# Altium integrated library Analog Devices Data Converters Digital-to-Analog Converters.IntLib: 2231 symbols (part 111 of 181)
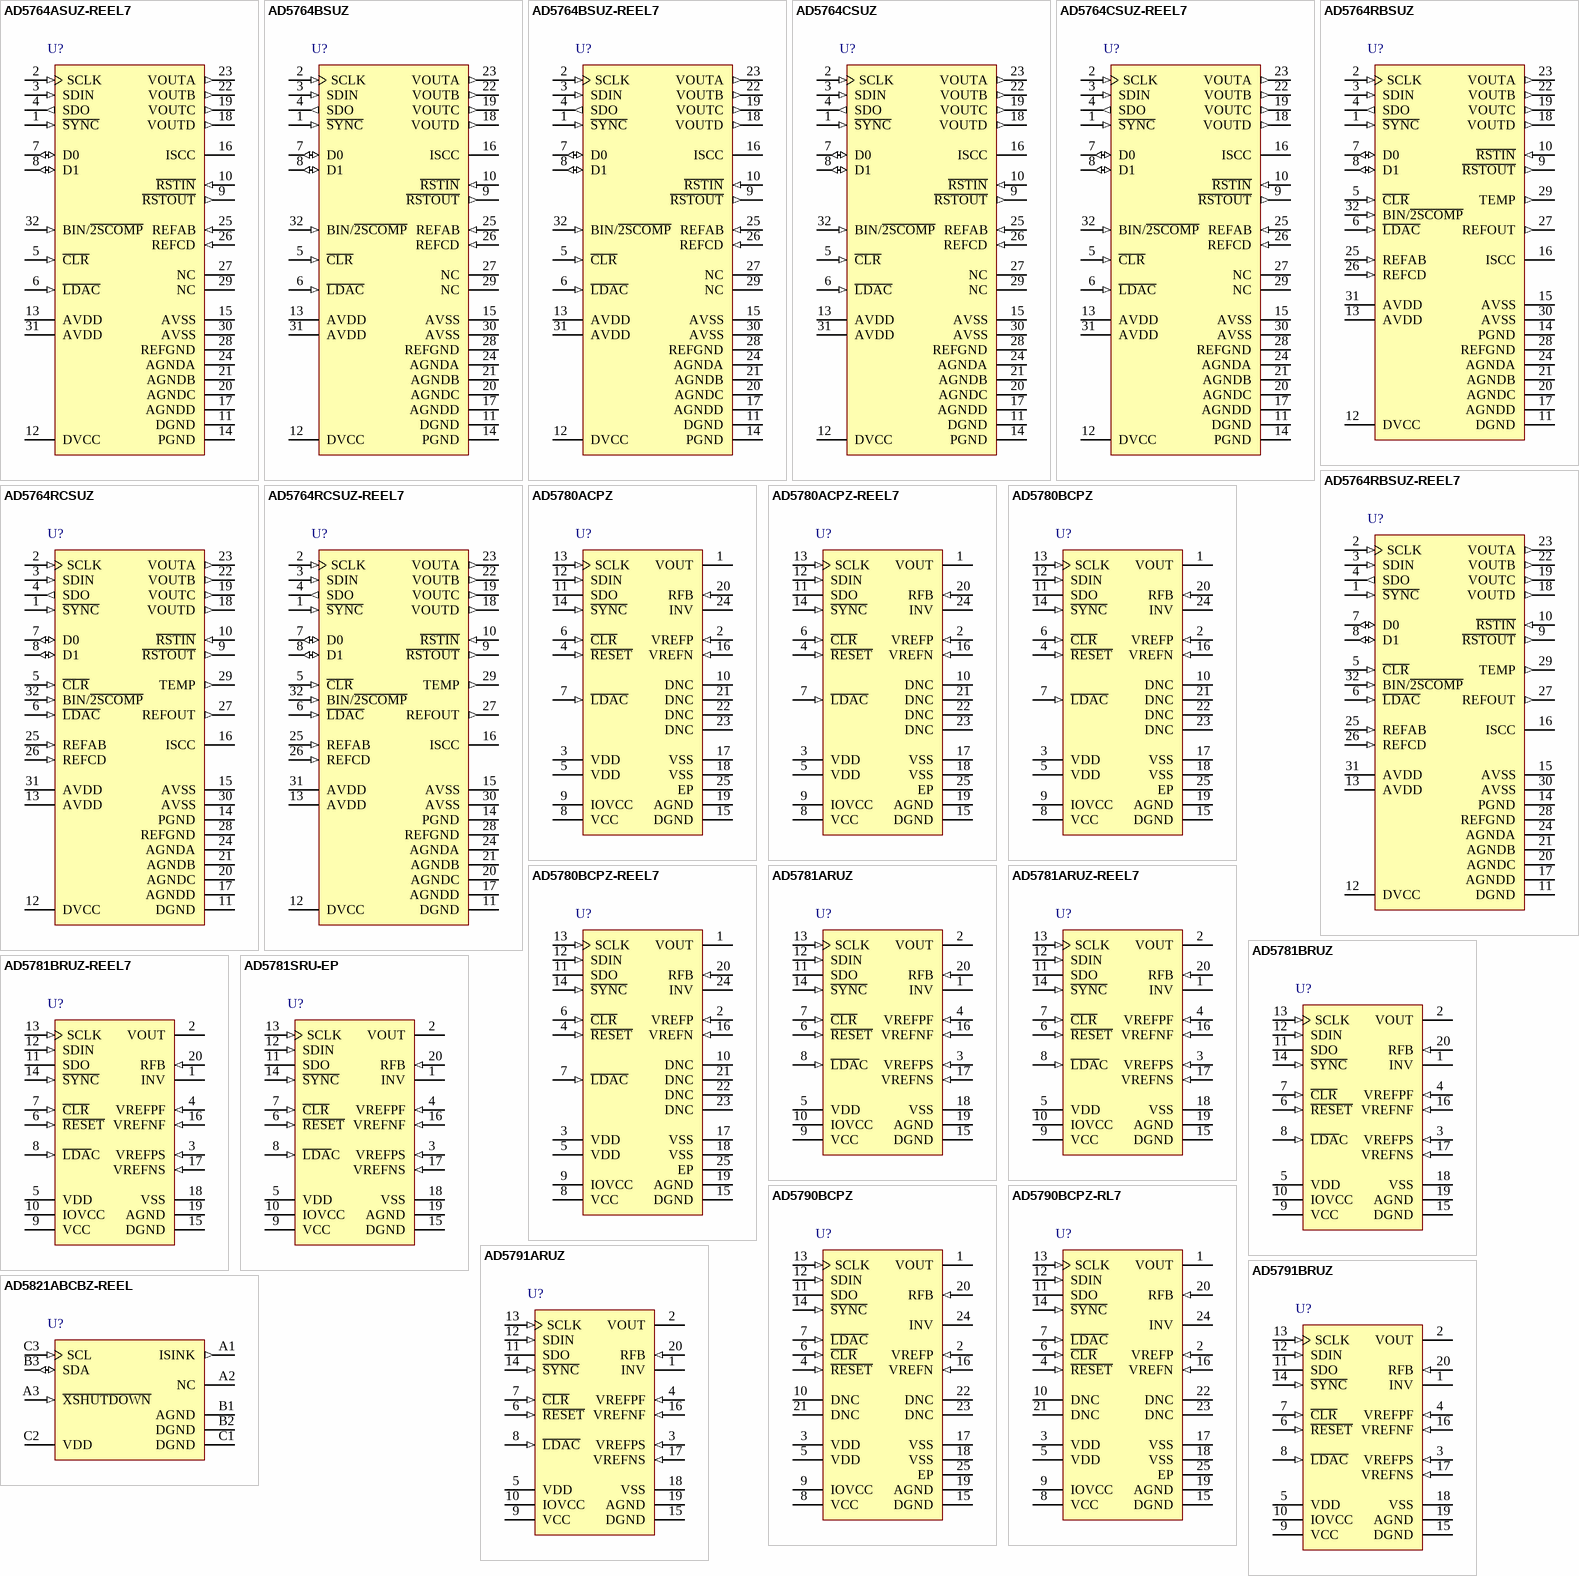
[diagram p224: symbols AD5764ASUZ-REEL7 to AD5821ABCBZ-REEL]

## AD5781BRUZ-REEL7
designator U?
Single 18-Bit Voltage Output Digital-to-Analog Converter, + / -0.5 LSB INL DNL, -40 to +125 degC, RU-20, Pb-Free, Tube; Generic Part Number: AD5781; Manufacturer: Analog Devices; PartNumber: AD5781BRUZ-REEL7; # DAC Outputs: 1; Max V+: 33V; Op Pwr Diss: 120mW; Packing: Reel; Resolution (Bits): 18; Settling Time: 1µs; Single Supply: No; DatasheetVersion: Rev.C; PackageVersion: 2000; PackageReference: RU-20; PackageDescription: 20-Lead Thin Shrink Small Outline Package [TSSOP]; Supplier 1: Digi-Key; Supplier Part Number 1: AD5781BRUZ-REEL7-ND; Supplier 2: Mouser; Supplier Part Number 2: 584-AD5781BRUZ-R7; RoHS: Y; Mounting Technology: Surface Mount; Code_JEDEC: MO-153AC; ComponentLink1Description: Manufacturer URL; ComponentLink1URL: http://www.analog.com/en/index.html; ComponentLink2Description: Datasheet; ComponentLink2URL: http://www.analog.com/static/imported-files/data_sheets/AD5781.pdf; ComponentLink3Description: Package Specification; ComponentLink3URL: http://www.analog.com/static/imported-files/packages/364515793657813558433715854054607941441RU20.pdf; ComponentLink4Description: Product URL; ComponentLink4URL: http://www.analog.com/en/digital-to-analog-converters/da-converters/ad5781/products/product.html
footprint RU-20_N (TSOP, 20-Leads, Body 6.5x4.4mm, Pitch 0.65mm, IPC Medium Density)
footprint RU-20_L (TSOP, 20-Leads, Body 6.5x4.4mm, Pitch 0.65mm, IPC High Density)
footprint RU-20_M (TSOP, 20-Leads, Body 6.5x4.4mm, Pitch 0.65mm, IPC Low Density)
pins: 1 INV "Connection to Inverting Input of External Amplifier. See the AD5781 Features section for further details.", 2 VOUT (hiz) "Analog Output Voltage.", 3 VREFPS (in) "Positive Reference Sense Voltage Input. A voltage range of 5 V to VDD - 2.5 V can be connected. A unity gain amplifier must be connected at this pin, in conjunction with the VREFPF pin. See the AD5781 Features section for (See Datasheet)", 4 VREFPF (in) "Positive Reference Force Voltage Input. A voltage range of 5 V to VDD - 2.5 V can be connected. A unity gain amplifier must be connected at these pin, in conjunction with the VREFPS pin. See AD5781 Features section for (See Datasheet)", 5 VDD (power) "Positive Analog Supply Connection. A voltage range of 7.5 V to 16.5 V can be connected. VDD should be decoupled to AGND.", 6 ~{RESET} (in) "Active Low Reset Logic Input Pin. Asserting this pin returns the AD5781 to its power-on status.", 7 ~{CLR} (in) "Active Low Clear Logic Input Pin. Asserting this pin sets the DAC register to a user defined value (see Table 13) and updates the DAC output. The output value depends on the DAC register coding that is being used, either (See Datasheet)", 8 ~{LDA}C (in) "Active Low Load DAC Logic Input Pin. This is used to update the DAC register and, consequently, the analog output. When tied permanently low, the output is updated on the rising edge of S\Y\N\C\. If L\D\A\C\ is held high (See Datasheet)", 9 VCC (power) "Digital Supply Connection. A voltage in the range of 2.7 V to 5.5 V can be connected. VCC should be decoupled to DGND.", 10 IOVCC (power) "Digital Interface Supply Pin. Digital threshold levels are referenced to the voltage applied to this pin. A voltage range of 1.71 V to 5.5 V can be connected. IOVCC should not be allowed to exceed VCC.", 11 SDO (hiz) "Serial Data Output Pin. Data is clocked out on the rising edge of the serial clock input.", 12 SDIN (in) "Serial Data Input Pin. This device has a 24-bit shift register. Data is clocked into the register on the falling edge of the serial clock input.", 13 SCLK (in) "Serial Clock Input. Data is clocked into the input shift register on the falling edge of the serial clock input. Data can be transferred at clock rates of up to 35 MHz.", 14 ~{SYNC} (in) "Active Low Digital Interface Synchronization Input Pin. This is the frame synchronization signal for the input data. When S\Y\N\C\ is low, it enables the input shift register, and data is then transferred in on the falling (See Datasheet)", 15 DGND (power) "Ground Reference Pin for Digital Circuitry.", 16 VREFNF (in) "Negative Reference Force Voltage Input. A voltage range of VSS + 2.5 V to 0 V can be connected. A unity gain amplifier must be connected at this pin, in conjunction with the VREFNS pin. See the AD5781 Features section for (See Datasheet)", 17 VREFNS (in) "Negative Reference Sense Voltage Input. A voltage range of VSS + 2.5 V to 0 V can be connected. A unity gain amplifier must be connected at these pin, in conjunction with the VREFNF pin. See the AD5781 Features section for (See Datasheet)", 18 VSS (power) "Negative Analog Supply Connection. A voltage range of -16.5 V to -2.5 V can be connected. VSS should be decoupled to AGND.", 19 AGND (power) "Ground Reference Pin for Analog Circuitry.", 20 RFB (in) "Feedback Connection for External Amplifier. See the AD5781 Features section for further details."

## AD5781SRU-EP
designator U?
Single 18-Bit Voltage Output Digital-to-Analog Converter, + / -0.5 LSB INL DNL, -40 to +125 degC, RU-20, Tube; Generic Part Number: AD5781; Manufacturer: Analog Devices; PartNumber: AD5781SRU-EP; # DAC Outputs: 1; Max V+: 33V; Op Pwr Diss: 120mW; Resolution (Bits): 18; Settling Time: 1µs; Single Supply: No; DatasheetVersion: Rev.C; PackageVersion: 2000; PackageReference: RU-20; PackageDescription: 20-Lead Thin Shrink Small Outline Package [TSSOP]; Supplier 1: Digi-Key; Supplier Part Number 1: AD5781SRU-EP-ND; Supplier 2: Mouser; Supplier Part Number 2: 584-AD5781SRU-EP; Packing: Tube; RoHS: N; Mounting Technology: Surface Mount; Code_JEDEC: MO-153AC; ComponentLink1Description: Manufacturer URL; ComponentLink1URL: http://www.analog.com/en/index.html; ComponentLink2Description: Datasheet; ComponentLink2URL: http://www.analog.com/static/imported-files/data_sheets/AD5781.pdf; ComponentLink3Description: Package Specification; ComponentLink3URL: http://www.analog.com/static/imported-files/packages/364515793657813558433715854054607941441RU20.pdf; ComponentLink4Description: Product URL; ComponentLink4URL: http://www.analog.com/en/digital-to-analog-converters/da-converters/ad5781/products/product.html
footprint RU-20_N (TSOP, 20-Leads, Body 6.5x4.4mm, Pitch 0.65mm, IPC Medium Density)
footprint RU-20_L (TSOP, 20-Leads, Body 6.5x4.4mm, Pitch 0.65mm, IPC High Density)
footprint RU-20_M (TSOP, 20-Leads, Body 6.5x4.4mm, Pitch 0.65mm, IPC Low Density)
pins: 1 INV "Connection to Inverting Input of External Amplifier. See the AD5781 Features section for further details.", 2 VOUT (hiz) "Analog Output Voltage.", 3 VREFPS (in) "Positive Reference Sense Voltage Input. A voltage range of 5 V to VDD - 2.5 V can be connected. A unity gain amplifier must be connected at this pin, in conjunction with the VREFPF pin. See the AD5781 Features section for (See Datasheet)", 4 VREFPF (in) "Positive Reference Force Voltage Input. A voltage range of 5 V to VDD - 2.5 V can be connected. A unity gain amplifier must be connected at these pin, in conjunction with the VREFPS pin. See AD5781 Features section for (See Datasheet)", 5 VDD (power) "Positive Analog Supply Connection. A voltage range of 7.5 V to 16.5 V can be connected. VDD should be decoupled to AGND.", 6 ~{RESET} (in) "Active Low Reset Logic Input Pin. Asserting this pin returns the AD5781 to its power-on status.", 7 ~{CLR} (in) "Active Low Clear Logic Input Pin. Asserting this pin sets the DAC register to a user defined value (see Table 13) and updates the DAC output. The output value depends on the DAC register coding that is being used, either (See Datasheet)", 8 ~{LDA}C (in) "Active Low Load DAC Logic Input Pin. This is used to update the DAC register and, consequently, the analog output. When tied permanently low, the output is updated on the rising edge of S\Y\N\C\. If L\D\A\C\ is held high (See Datasheet)", 9 VCC (power) "Digital Supply Connection. A voltage in the range of 2.7 V to 5.5 V can be connected. VCC should be decoupled to DGND.", 10 IOVCC (power) "Digital Interface Supply Pin. Digital threshold levels are referenced to the voltage applied to this pin. A voltage range of 1.71 V to 5.5 V can be connected. IOVCC should not be allowed to exceed VCC.", 11 SDO (hiz) "Serial Data Output Pin. Data is clocked out on the rising edge of the serial clock input.", 12 SDIN (in) "Serial Data Input Pin. This device has a 24-bit shift register. Data is clocked into the register on the falling edge of the serial clock input.", 13 SCLK (in) "Serial Clock Input. Data is clocked into the input shift register on the falling edge of the serial clock input. Data can be transferred at clock rates of up to 35 MHz.", 14 ~{SYNC} (in) "Active Low Digital Interface Synchronization Input Pin. This is the frame synchronization signal for the input data. When S\Y\N\C\ is low, it enables the input shift register, and data is then transferred in on the falling (See Datasheet)", 15 DGND (power) "Ground Reference Pin for Digital Circuitry.", 16 VREFNF (in) "Negative Reference Force Voltage Input. A voltage range of VSS + 2.5 V to 0 V can be connected. A unity gain amplifier must be connected at this pin, in conjunction with the VREFNS pin. See the AD5781 Features section for (See Datasheet)", 17 VREFNS (in) "Negative Reference Sense Voltage Input. A voltage range of VSS + 2.5 V to 0 V can be connected. A unity gain amplifier must be connected at these pin, in conjunction with the VREFNF pin. See the AD5781 Features section for (See Datasheet)", 18 VSS (power) "Negative Analog Supply Connection. A voltage range of -16.5 V to -2.5 V can be connected. VSS should be decoupled to AGND.", 19 AGND (power) "Ground Reference Pin for Analog Circuitry.", 20 RFB (in) "Feedback Connection for External Amplifier. See the AD5781 Features section for further details."

## AD5790BCPZ
designator U?
Single 20-Bit System Ready Voltage Output Digital-to-Analog Converter, -40 to +125 degC, CP-24-5, Pb-Free, Tray; Generic Part Number: AD5790; Manufacturer: Analog Devices; PartNumber: AD5790BCPZ; # DAC Outputs: 1; Max V+: 16.5V; Resolution (Bits): 20; Single Supply: No; DatasheetVersion: Rev.B; PackageVersion: 04-11-2012-B; PackageReference: CP-24-5; PackageDescription: 24-Lead Lead Frame Chip Scale Package [LFCSP_VQ] 4 x 5 mm Body, Very Thin Quad; Supplier 1: Digi-Key; Supplier Part Number 1: AD5790BCPZ-ND; Supplier 2: Farnell; Supplier Part Number 2: 2077688; Supplier 3: Newark; Supplier Part Number 3: 76T1808; Supplier 4: Mouser; Supplier Part Number 4: 584-AD5790BCPZ; Packing: Tray; RoHS: Y; Mounting Technology: Surface Mount; ComponentLink1Description: Manufacturer URL; ComponentLink1URL: http://www.analog.com/en/index.html; ComponentLink2Description: Datasheet; ComponentLink2URL: http://www.analog.com/static/imported-files/data_sheets/AD5790.pdf; ComponentLink3Description: Package Specification; ComponentLink3URL: http://www.analog.com/static/imported-files/packages/PKG_PDF/LFCSP(CP)/CP_24_5.pdf; ComponentLink4Description: Product URL; ComponentLink4URL: http://www.analog.com/en/digital-to-analog-converters/da-converters/ad5790/products/product.html
footprint CP-24-5_N (QFN, 24-Leads, Body 4x5mm, Pitch 0.5mm, Thermal Pad 2.65x3.65mm, IPC Medium Density)
footprint CP-24-5_L (QFN, 24-Leads, Body 4x5mm, Pitch 0.5mm, Thermal Pad 2.65x3.65mm, IPC High Density)
footprint CP-24-5_M (QFN, 24-Leads, Body 4x5mm, Pitch 0.5mm, Thermal Pad 2.65x3.65mm, IPC Low Density)
pins: 1 VOUT (hiz) "Analog Output Voltage.", 2 VREFP (in) "Positive Reference Voltage Input. A voltage in the range of 5 V to VDD - 2.5 V can be connected.", 3 VDD (power) "Positive Analog Supply Connection. A voltage in the range of 7.5 V to 16.5 V can be connected. VDD must be decoupled to AGND.", 4 ~{RESET} (in) "Active Low Reset. Asserting this pin returns the AD5790 to its power-on status.", 5 VDD (power) "Positive Analog Supply Connection. A voltage in the range of 7.5 V to 16.5 V can be connected. VDD must be decoupled to AGND.", 6 ~{CLR} (in) "Active Low Input. Asserting this pin sets the DAC register to a user defined value (see Table 12) and updates the DAC output. The output value depends on the DAC register coding that is being used, either binary or twos (See Datasheet)", 7 ~{LDAC} (in) "Active Low Load DAC Logic Input. This is used to update the DAC register and, consequently, the analog output. When tied permanently low, the output is updated on the rising edge of S\Y\N\C\. If L\D\A\C\ is held high during (See Datasheet)", 8 VCC (power) "Digital Supply. Voltage range is from 2.7 V to 5.5 V. VCC should be decoupled to DGND.", 9 IOVCC (power) "Digital Interface Supply. Digital threshold levels are referenced to the voltage applied to this pin. Voltage range is from 1.71 V to 5.5 V", 10 DNC "Do Not Connect. Do not connect to these pins.", 11 SDO (hiz) "Serial Data Output.", 12 SDIN (in) "Serial Data Input. This device has a 24-bit input shift register. Data is clocked into the register on the falling edge of the serial clock input.", 13 SCLK (in) "Serial Clock Input. Data is clocked into the input shift register on the falling edge of the serial clock input. Data can be transferred at rates of up to 35 MHz.", 14 ~{SYNC} (in) "Level-Triggered Control Input (Active Low). This is the frame synchronization signal for the input data. When S\Y\N\C\ goes low, it enables the input shift register, and data is then transferred in on the falling edges of (See Datasheet)", 15 DGND (power) "Ground Reference Pin for Digital Circuitry.", 16 VREFN (in) "Negative Reference Voltage Input.", 17 VSS (power) "Negative Analog Supply Connection. A voltage in the range of -16.5 V to -2.5 V can be connected. VSS must be decoupled to AGND.", 18 VSS (power) "Negative Analog Supply Connection. A voltage in the range of -16.5 V to -2.5 V can be connected. VSS must be decoupled to AGND.", 19 AGND (power) "Ground Reference Pin for Analog Circuitry.", 20 RFB (in) "Feedback Connection for External Amplifier. See the AD5790 Features section for further details.", 21 DNC "Do Not Connect. Do not connect to these pins.", 22 DNC "Do Not Connect. Do not connect to these pins.", 23 DNC "Do Not Connect. Do not connect to these pins.", 24 INV "Inverting Input Connection for External Amplifier. See the AD5790 Features section for further details.", 25 EP (power) "Negative Analog Supply Connection (VSS). A voltage in the range of -16.5 V to -2.5 V can be connected. VSS must be decoupled to AGND. The paddle can be left electrically unconnected provided that a supply connection is made (See Datasheet)"

## AD5790BCPZ-RL7
designator U?
Single 20-Bit System Ready Voltage Output Digital-to-Analog Converter, -40 to +125 degC, CP-24-5, Pb-Free, Reel; Generic Part Number: AD5790; Manufacturer: Analog Devices; PartNumber: AD5790BCPZ-RL7; # DAC Outputs: 1; Max V+: 16.5V; Resolution (Bits): 20; Single Supply: No; DatasheetVersion: Rev.B; PackageVersion: 04-11-2012-B; PackageReference: CP-24-5; PackageDescription: 24-Lead Lead Frame Chip Scale Package [LFCSP_VQ] 4 x 5 mm Body, Very Thin Quad; Supplier 1: Digi-Key; Supplier Part Number 1: AD5790BCPZ-RL7-ND; Supplier 2: Mouser; Supplier Part Number 2: 584-AD5790BCPZ-R7; Packing: Reel; RoHS: Y; Mounting Technology: Surface Mount; ComponentLink1Description: Manufacturer URL; ComponentLink1URL: http://www.analog.com/en/index.html; ComponentLink2Description: Datasheet; ComponentLink2URL: http://www.analog.com/static/imported-files/data_sheets/AD5790.pdf; ComponentLink3Description: Package Specification; ComponentLink3URL: http://www.analog.com/static/imported-files/packages/PKG_PDF/LFCSP(CP)/CP_24_5.pdf; ComponentLink4Description: Product URL; ComponentLink4URL: http://www.analog.com/en/digital-to-analog-converters/da-converters/ad5790/products/product.html
footprint CP-24-5_N (QFN, 24-Leads, Body 4x5mm, Pitch 0.5mm, Thermal Pad 2.65x3.65mm, IPC Medium Density)
footprint CP-24-5_L (QFN, 24-Leads, Body 4x5mm, Pitch 0.5mm, Thermal Pad 2.65x3.65mm, IPC High Density)
footprint CP-24-5_M (QFN, 24-Leads, Body 4x5mm, Pitch 0.5mm, Thermal Pad 2.65x3.65mm, IPC Low Density)
pins: 1 VOUT (hiz) "Analog Output Voltage.", 2 VREFP (in) "Positive Reference Voltage Input. A voltage in the range of 5 V to VDD - 2.5 V can be connected.", 3 VDD (power) "Positive Analog Supply Connection. A voltage in the range of 7.5 V to 16.5 V can be connected. VDD must be decoupled to AGND.", 4 ~{RESET} (in) "Active Low Reset. Asserting this pin returns the AD5790 to its power-on status.", 5 VDD (power) "Positive Analog Supply Connection. A voltage in the range of 7.5 V to 16.5 V can be connected. VDD must be decoupled to AGND.", 6 ~{CLR} (in) "Active Low Input. Asserting this pin sets the DAC register to a user defined value (see Table 12) and updates the DAC output. The output value depends on the DAC register coding that is being used, either binary or twos (See Datasheet)", 7 ~{LDAC} (in) "Active Low Load DAC Logic Input. This is used to update the DAC register and, consequently, the analog output. When tied permanently low, the output is updated on the rising edge of S\Y\N\C\. If L\D\A\C\ is held high during (See Datasheet)", 8 VCC (power) "Digital Supply. Voltage range is from 2.7 V to 5.5 V. VCC should be decoupled to DGND.", 9 IOVCC (power) "Digital Interface Supply. Digital threshold levels are referenced to the voltage applied to this pin. Voltage range is from 1.71 V to 5.5 V", 10 DNC "Do Not Connect. Do not connect to these pins.", 11 SDO (hiz) "Serial Data Output.", 12 SDIN (in) "Serial Data Input. This device has a 24-bit input shift register. Data is clocked into the register on the falling edge of the serial clock input.", 13 SCLK (in) "Serial Clock Input. Data is clocked into the input shift register on the falling edge of the serial clock input. Data can be transferred at rates of up to 35 MHz.", 14 ~{SYNC} (in) "Level-Triggered Control Input (Active Low). This is the frame synchronization signal for the input data. When S\Y\N\C\ goes low, it enables the input shift register, and data is then transferred in on the falling edges of (See Datasheet)", 15 DGND (power) "Ground Reference Pin for Digital Circuitry.", 16 VREFN (in) "Negative Reference Voltage Input.", 17 VSS (power) "Negative Analog Supply Connection. A voltage in the range of -16.5 V to -2.5 V can be connected. VSS must be decoupled to AGND.", 18 VSS (power) "Negative Analog Supply Connection. A voltage in the range of -16.5 V to -2.5 V can be connected. VSS must be decoupled to AGND.", 19 AGND (power) "Ground Reference Pin for Analog Circuitry.", 20 RFB (in) "Feedback Connection for External Amplifier. See the AD5790 Features section for further details.", 21 DNC "Do Not Connect. Do not connect to these pins.", 22 DNC "Do Not Connect. Do not connect to these pins.", 23 DNC "Do Not Connect. Do not connect to these pins.", 24 INV "Inverting Input Connection for External Amplifier. See the AD5790 Features section for further details.", 25 EP (power) "Negative Analog Supply Connection (VSS). A voltage in the range of -16.5 V to -2.5 V can be connected. VSS must be decoupled to AGND. The paddle can be left electrically unconnected provided that a supply connection is made (See Datasheet)"

## AD5791ARUZ
designator U?
Single 20-Bit Voltage Output Digital-to-Analog Converter, 1 ppm, -40 to +125 degC, RU-20, Pb-Free, Tube; Generic Part Number: AD5791; Manufacturer: Analog Devices; PartNumber: AD5791ARUZ; # DAC Outputs: 1; Max V+: 16.5V; Op Pwr Diss: 126.3mW; Resolution (Bits): 20; Settling Time: 1µs; Single Supply: No; DatasheetVersion: Rev.C; PackageVersion: 2000; PackageReference: RU-20; PackageDescription: 20-Lead Thin Shrink Small Outline Package [TSSOP]; Supplier 1: Digi-Key; Supplier Part Number 1: AD5791ARUZ-ND; Supplier 2: Farnell; Supplier Part Number 2: 2074863; Supplier 3: Newark; Supplier Part Number 3: 18T2142; Supplier 4: Mouser; Supplier Part Number 4: 584-AD5791ARUZ; Packing: Tube; RoHS: Y; Mounting Technology: Surface Mount; Code_JEDEC: MO-153AC; ComponentLink1Description: Manufacturer URL; ComponentLink1URL: http://www.analog.com/en/index.html; ComponentLink2Description: Datasheet; ComponentLink2URL: http://www.analog.com/static/imported-files/data_sheets/AD5791.pdf; ComponentLink3Description: Package Specification; ComponentLink3URL: http://www.analog.com/static/imported-files/packages/364515793657813558433715854054607941441RU20.pdf; ComponentLink4Description: Product URL; ComponentLink4URL: http://www.analog.com/en/digital-to-analog-converters/da-converters/ad5791/products/product.html
footprint RU-20_N (TSOP, 20-Leads, Body 6.5x4.4mm, Pitch 0.65mm, IPC Medium Density)
footprint RU-20_L (TSOP, 20-Leads, Body 6.5x4.4mm, Pitch 0.65mm, IPC High Density)
footprint RU-20_M (TSOP, 20-Leads, Body 6.5x4.4mm, Pitch 0.65mm, IPC Low Density)
pins: 1 INV "Connection to Inverting Input of External Amplifier. See the AD5791 Features section for further details.", 2 VOUT (hiz) "Analog Output Voltage.", 3 VREFPS (in) "Positive Reference Sense Voltage Input. A voltage range of 5 V to VDD - 2.5 V can be connected. A unity gain amplifier must be connected at this pin in conjunction with the VREFPF pin. See the AD5791 Features section for (See Datasheet)", 4 VREFPF (in) "Positive Reference Force Voltage Input. A voltage range of 5 V to VDD - 2.5 V can be connected. A unity gain amplifier must be connected at this pin in conjunction with the VREFPS pin. See the AD5791 Features section for (See Datasheet)", 5 VDD (power) "Positive Analog Supply Connection. A voltage range of 7.5 V to 16.5 V can be connected, VDD should be decoupled to AGND.", 6 ~{RESET} (in) "Active Low Reset Logic Input Pin. Asserting this pin returns the AD5791 to its power-on status.", 7 ~{CLR} (in) "Active Low Clear Logic Input Pin. Asserting this pin sets the DAC register to a user defined value (see Table 13) and updates the DAC output. The output value depends on the DAC register coding that is being used, either (See Datasheet)", 8 ~{LDAC} (in) "Active Low Load DAC Logic Input Pin. This is used to update the DAC register and consequently, the analog output. When tied permanently low, the output is updated on the rising edge of S\Y\N\C\. If L\D\A\C\ is held high (See Datasheet)", 9 VCC (power) "Digital Supply Connection. A voltage range of 2.7 V to 5.5 V can be connected. VCC should be decoupled to DGND.", 10 IOVCC (power) "Digital Interface Supply Pin. Digital threshold levels are referenced to the voltage applied to this pin. A voltage in the range of 1.71 V to 5.5 V can be connected. IOVCC should not be allowed to exceed VCC.", 11 SDO (hiz) "Serial Data Output Pin. Data is clocked out on the rising edge of the serial clock input.", 12 SDIN (in) "Serial Data Input Pin. This device has a 24-bit shift register. Data is clocked into the register on the falling edge of the serial clock input.", 13 SCLK (in) "Serial Clock Input. Data is clocked into the input shift register on the falling edge of the serial clock input. Data can be transferred at clock rates of up to 35 MHz.", 14 ~{SYNC} (in) "Active Low Digital Interface Synchronization Input Pin. This is the frame synchronization signal for the input data. When S\Y\N\C\ is low, it enables the input shift register, and data is then transferred in on the falling (See Datasheet)", 15 DGND (power) "Ground Reference Pin for Digital Circuitry.", 16 VREFNF (in) "Negative Reference Force Voltage Input. A voltage range of VSS + 2.5 V to 0 V can be connected. A unity gain amplifier must be connected at this pin, in conjunction with the VREFNS pin. See the AD5791 Features section for (See Datasheet)", 17 VREFNS (in) "Negative Reference Sense Voltage Input. A voltage range of VSS + 2.5 V to 0 V can be connected. A unity gain amplifier must be connected at this pin, in conjunction with the VREFNF pin. See the AD5791 Features section for (See Datasheet)", 18 VSS (power) "Negative Analog Supply Connection. A voltage range of -16.5 V to -2.5 V can be connected. VSS should be decoupled to AGND.", 19 AGND (power) "Ground Reference Pin for Analog Circuitry.", 20 RFB (in) "Feedback Connection for External Amplifier. See the AD5791 Features section for further details."

## AD5791BRUZ
designator U?
Single 20-Bit Voltage Output Digital-to-Analog Converter, 1 ppm, -40 to +125 degC, RU-20, Pb-Free, Tube; Generic Part Number: AD5791; Manufacturer: Analog Devices; PartNumber: AD5791BRUZ; # DAC Outputs: 1; Max V+: 16.5V; Op Pwr Diss: 126.3mW; Resolution (Bits): 20; Settling Time: 1µs; Single Supply: No; DatasheetVersion: Rev.C; PackageVersion: 2000; PackageReference: RU-20; PackageDescription: 20-Lead Thin Shrink Small Outline Package [TSSOP]; Supplier 1: Digi-Key; Supplier Part Number 1: AD5791BRUZ-ND; Supplier 2: Farnell; Supplier Part Number 2: 1864684; Supplier 3: Newark; Supplier Part Number 3: 85R6432; Supplier 4: Mouser; Supplier Part Number 4: 584-AD5791BRUZ; Packing: Tube; RoHS: Y; Mounting Technology: Surface Mount; Code_JEDEC: MO-153AC; ComponentLink1Description: Manufacturer URL; ComponentLink1URL: http://www.analog.com/en/index.html; ComponentLink2Description: Datasheet; ComponentLink2URL: http://www.analog.com/static/imported-files/data_sheets/AD5791.pdf; ComponentLink3Description: Package Specification; ComponentLink3URL: http://www.analog.com/static/imported-files/packages/364515793657813558433715854054607941441RU20.pdf; ComponentLink4Description: Product URL; ComponentLink4URL: http://www.analog.com/en/digital-to-analog-converters/da-converters/ad5791/products/product.html
footprint RU-20_N (TSOP, 20-Leads, Body 6.5x4.4mm, Pitch 0.65mm, IPC Medium Density)
footprint RU-20_L (TSOP, 20-Leads, Body 6.5x4.4mm, Pitch 0.65mm, IPC High Density)
footprint RU-20_M (TSOP, 20-Leads, Body 6.5x4.4mm, Pitch 0.65mm, IPC Low Density)
pins: 1 INV "Connection to Inverting Input of External Amplifier. See the AD5791 Features section for further details.", 2 VOUT (hiz) "Analog Output Voltage.", 3 VREFPS (in) "Positive Reference Sense Voltage Input. A voltage range of 5 V to VDD - 2.5 V can be connected. A unity gain amplifier must be connected at this pin in conjunction with the VREFPF pin. See the AD5791 Features section for (See Datasheet)", 4 VREFPF (in) "Positive Reference Force Voltage Input. A voltage range of 5 V to VDD - 2.5 V can be connected. A unity gain amplifier must be connected at this pin in conjunction with the VREFPS pin. See the AD5791 Features section for (See Datasheet)", 5 VDD (power) "Positive Analog Supply Connection. A voltage range of 7.5 V to 16.5 V can be connected, VDD should be decoupled to AGND.", 6 ~{RESET} (in) "Active Low Reset Logic Input Pin. Asserting this pin returns the AD5791 to its power-on status.", 7 ~{CLR} (in) "Active Low Clear Logic Input Pin. Asserting this pin sets the DAC register to a user defined value (see Table 13) and updates the DAC output. The output value depends on the DAC register coding that is being used, either (See Datasheet)", 8 ~{LDAC} (in) "Active Low Load DAC Logic Input Pin. This is used to update the DAC register and consequently, the analog output. When tied permanently low, the output is updated on the rising edge of S\Y\N\C\. If L\D\A\C\ is held high (See Datasheet)", 9 VCC (power) "Digital Supply Connection. A voltage range of 2.7 V to 5.5 V can be connected. VCC should be decoupled to DGND.", 10 IOVCC (power) "Digital Interface Supply Pin. Digital threshold levels are referenced to the voltage applied to this pin. A voltage in the range of 1.71 V to 5.5 V can be connected. IOVCC should not be allowed to exceed VCC.", 11 SDO (hiz) "Serial Data Output Pin. Data is clocked out on the rising edge of the serial clock input.", 12 SDIN (in) "Serial Data Input Pin. This device has a 24-bit shift register. Data is clocked into the register on the falling edge of the serial clock input.", 13 SCLK (in) "Serial Clock Input. Data is clocked into the input shift register on the falling edge of the serial clock input. Data can be transferred at clock rates of up to 35 MHz.", 14 ~{SYNC} (in) "Active Low Digital Interface Synchronization Input Pin. This is the frame synchronization signal for the input data. When S\Y\N\C\ is low, it enables the input shift register, and data is then transferred in on the falling (See Datasheet)", 15 DGND (power) "Ground Reference Pin for Digital Circuitry.", 16 VREFNF (in) "Negative Reference Force Voltage Input. A voltage range of VSS + 2.5 V to 0 V can be connected. A unity gain amplifier must be connected at this pin, in conjunction with the VREFNS pin. See the AD5791 Features section for (See Datasheet)", 17 VREFNS (in) "Negative Reference Sense Voltage Input. A voltage range of VSS + 2.5 V to 0 V can be connected. A unity gain amplifier must be connected at this pin, in conjunction with the VREFNF pin. See the AD5791 Features section for (See Datasheet)", 18 VSS (power) "Negative Analog Supply Connection. A voltage range of -16.5 V to -2.5 V can be connected. VSS should be decoupled to AGND.", 19 AGND (power) "Ground Reference Pin for Analog Circuitry.", 20 RFB (in) "Feedback Connection for External Amplifier. See the AD5791 Features section for further details."

## AD5821ABCBZ-REEL
designator U?
Single 10-Bit Current Sinking Digital-to-Analog Converter with I2C Interface, 120 mA, 0 to +70 degC, CB-9-1, Pb-Free, Reel; Generic Part Number: AD5821A; Manufacturer: Analog Devices; PartNumber: AD5821ABCBZ-REEL; # DAC Outputs: 1; Max V+: 5.5V; Op Pwr Diss: 5mW; Resolution (Bits): 10; Settling Time: 250µs; Single Supply: Yes; DatasheetVersion: Rev.0; PackageVersion: 091306-B; PackageReference: CB-9-1; PackageDescription: 9-Ball Wafer Level Chip Scale Package [WLCSP]; Supplier 1: Digi-Key; Supplier Part Number 1: AD5821ABCBZ-REEL-ND; Supplier 2: Mouser; Supplier Part Number 2: 584-AD5821ABCBZ-R; Packing: Reel; Product URL: www.analog.com/en/audiovideo-products/lens-driver-components/ad5821a/products/product.html; RoHS: Y; Mounting Technology: Surface Mount; ComponentLink1Description: Manufacturer URL; ComponentLink1URL: http://www.analog.com/en/index.html; ComponentLink2Description: Datasheet; ComponentLink2URL: http://www.analog.com/static/imported-files/data_sheets/AD5821A.pdf; ComponentLink3Description: Package Specification; ComponentLink3URL: http://www.analog.com/static/imported-files/packages/PKG_PDF/WLCSP(CB)/CB_9_1.pdf
footprint CB-9-1 (BGA, 9-Leads, Body 1.69x1.52mm, Pitch 0.5mm)
pins: A1 ISINK (out) "Output Current Sink.", A2 NC "No Connection.", A3 ~{XSHUTDOWN} (in) "Power-Down. Asynchronous power-down signal, active low.", B1 AGND (power) "Analog Ground Pin.", B2 DGND (power) "Digital Ground Pin", B3 SDA (io) "I2C Interface Signal", C1 DGND (power) "Digital Ground Pin.", C2 VDD (power) "Digital Supply Voltage.", C3 SCL (in) "I2C Interface Signal."

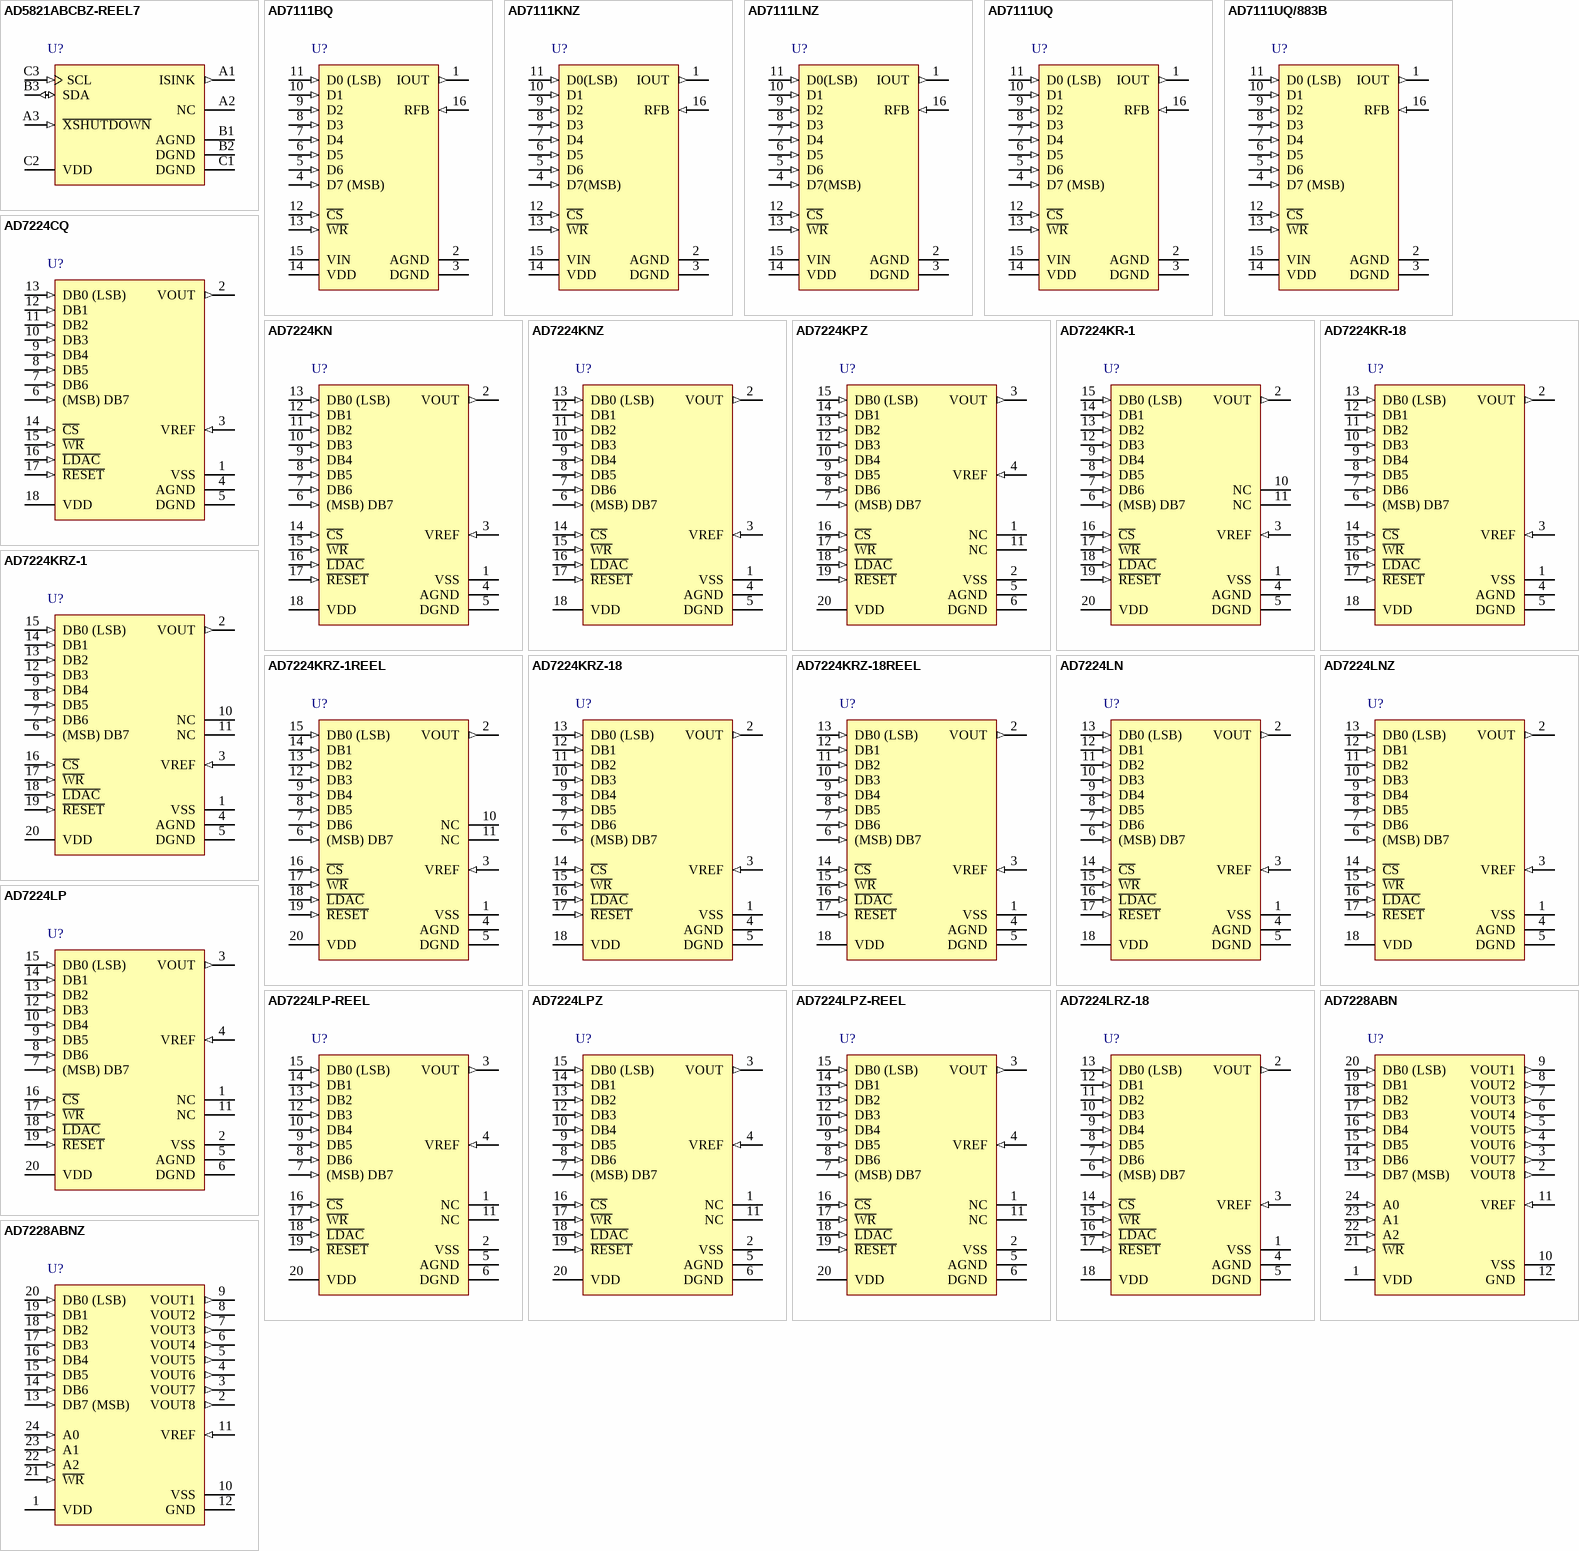
[diagram p58: symbols AD5821ABCBZ-REEL7 to AD7228ABNZ]

## AD5821ABCBZ-REEL7
designator U?
Single 10-Bit Current Sinking Digital-to-Analog Converter with I2C Interface, 120 mA, 0 to +70 degC, CB-9-1, Pb-Free, Reel; Generic Part Number: AD5821A; Manufacturer: Analog Devices; PartNumber: AD5821ABCBZ-REEL7; # DAC Outputs: 1; Max V+: 5.5V; Op Pwr Diss: 5mW; Resolution (Bits): 10; Settling Time: 250µs; DatasheetVersion: Rev.0; PackageVersion: 091306-B; PackageReference: CB-9-1; PackageDescription: 9-Ball Wafer Level Chip Scale Package [WLCSP]; Supplier 1: Digi-Key; Supplier Part Number 1: AD5821ABCBZ-REEL7TR-ND; Supplier 2: Digi-Key; Supplier Part Number 2: AD5821ABCBZ-REEL7CT-ND; Supplier 3: Digi-Key; Supplier Part Number 3: AD5821ABCBZ-REEL7DKR-ND; Supplier 4: Mouser; Supplier Part Number 4: 584-AD5821ABCBZ-R7; Packing: Reel; Product URL: www.analog.com/en/audiovideo-products/lens-driver-components/ad5821a/products/product.html; RoHS: Y; Single Supply: -; Mounting Technology: Surface Mount; ComponentLink1Description: Manufacturer URL; ComponentLink1URL: http://www.analog.com/en/index.html; ComponentLink2Description: Datasheet; ComponentLink2URL: http://www.analog.com/static/imported-files/data_sheets/AD5821A.pdf; ComponentLink3Description: Package Specification; ComponentLink3URL: http://www.analog.com/static/imported-files/packages/PKG_PDF/WLCSP(CB)/CB_9_1.pdf
footprint CB-9-1 (BGA, 9-Leads, Body 1.69x1.52mm, Pitch 0.5mm)
pins: A1 ISINK (out) "Output Current Sink.", A2 NC "No Connection.", A3 ~{XSHUTDOWN} (in) "Power-Down. Asynchronous power-down signal, active low.", B1 AGND (power) "Analog Ground Pin.", B2 DGND (power) "Digital Ground Pin", B3 SDA (io) "I2C Interface Signal", C1 DGND (power) "Digital Ground Pin.", C2 VDD (power) "Digital Supply Voltage.", C3 SCL (in) "I2C Interface Signal."

## AD7111BQ
designator U?
Single LC2MOS Logarithmic Digital-to-Analog Converter, -40 to +85 degC, Q-16, Tube; Generic Part Number: AD7111; Manufacturer: Analog Devices; PartNumber: AD7111BQ; # DAC Outputs: 1; Max V+: 5V; Op Pwr Diss: 10mW; Resolution (Bits): 17; Single Supply: Yes; DatasheetVersion: Rev.0; PackageVersion: 1996; PackageReference: Q-16; PackageDescription: DIP, 16-Pin, Skinny Dual In-line Package, 300mil Wide, Pitch 2.54 mm; Supplier 1: Digi-Key; Supplier Part Number 1: AD7111BQ-ND; Supplier 2: Mouser; Supplier Part Number 2: 584-AD7111BQ; Packing: Tube; RoHS: N; Mounting Technology: Through Hole; ComponentLink1Description: Manufacturer URL; ComponentLink1URL: http://www.analog.com/en/index.html; ComponentLink2Description: Datasheet; ComponentLink2URL: http://www.analog.com/static/imported-files/data_sheets/AD7111_7111A.pdf; ComponentLink3Description: Package Specification; ComponentLink3URL: http://www.analog.com/static/imported-files/packages/54083157002221Q_16.pdf; ComponentLink4Description: Product URL; ComponentLink4URL: http://www.analog.com/en/digital-to-analog-converters/da-converters/ad7111/products/product.html
footprint Q-16 (DIP, 16-Leads, Row Spacing 7.62mm, Pitch 2.54mm, Body 20.07x6.73mm)
pins: 1 IOUT (out), 2 AGND (power), 3 DGND (power), 4 D7 (MSB) (in), 5 D6 (in), 6 D5 (in), 7 D4 (in), 8 D3 (in), 9 D2 (in), 10 D1 (in), 11 D0 (LSB) (in), 12 ~{CS} (in), 13 ~{WR} (in), 14 VDD (power), 15 VIN (power), 16 RFB (in)

## AD7111KNZ
designator U?
Single LC2MOS Logarithmic Digital-to-Analog Converter, 0 to +70 degC, N-16, Pb-Free, Tube; Generic Part Number: AD7111; Manufacturer: Analog Devices; PartNumber: AD7111KNZ; # DAC Outputs: 1; Max V+: 5V; Op Pwr Diss: 10mW; Resolution (Bits): 17; Single Supply: Yes; DatasheetVersion: Rev.0; PackageVersion: 070706-A; PackageReference: N-16; PackageDescription: 16-Lead Plastic Dual In-Line Package [PDIP] Narrow Body; Supplier 1: Digi-Key; Supplier Part Number 1: AD7111KNZ-ND; Supplier 2: Mouser; Supplier Part Number 2: 584-AD7111KNZ; Packing: Tube; RoHS: Y; Mounting Technology: Through Hole; Code_JEDEC: MS-001; ComponentLink1Description: Manufacturer URL; ComponentLink1URL: http://www.analog.com/en/index.html; ComponentLink2Description: Datasheet; ComponentLink2URL: http://www.analog.com/static/imported-files/data_sheets/AD7111_7111A.pdf; ComponentLink3Description: Package Specification; ComponentLink3URL: http://www.analog.com/static/imported-files/packages/44768431550332N_16.pdf; ComponentLink4Description: Product URL; ComponentLink4URL: http://www.analog.com/en/digital-to-analog-converters/da-converters/ad7111/products/product.html
footprint N-16 (DIP, 16-Leads, Row Spacing 7.62mm, Pitch 2.54mm, Body 20.1x6.6mm)
pins: 1 IOUT (out), 2 AGND (power), 3 DGND (power), 4 D7(MSB) (in), 5 D6 (in), 6 D5 (in), 7 D4 (in), 8 D3 (in), 9 D2 (in), 10 D1 (in), 11 D0(LSB) (in), 12 ~{CS} (in), 13 ~{WR} (in), 14 VDD (power), 15 VIN (power), 16 RFB (in)

## AD7111LNZ
designator U?
Single LC2MOS Logarithmic Digital-to-Analog Converter, 0 to +70 degC, N-16, Pb-Free, Tube; Generic Part Number: AD7111; Manufacturer: Analog Devices; PartNumber: AD7111LNZ; # DAC Outputs: 1; Max V+: 5V; Op Pwr Diss: 10mW; Resolution (Bits): 17; Single Supply: Yes; DatasheetVersion: Rev.0; PackageVersion: 070706-A; PackageReference: N-16; PackageDescription: 16-Lead Plastic Dual In-Line Package [PDIP] Narrow Body; Supplier 1: Digi-Key; Supplier Part Number 1: AD7111LNZ-ND; Supplier 2: Newark; Supplier Part Number 2: 59K4547; Supplier 3: Mouser; Supplier Part Number 3: 584-AD7111LNZ; Packing: Tube; RoHS: Y; Mounting Technology: Through Hole; Code_JEDEC: MS-001; ComponentLink1Description: Manufacturer URL; ComponentLink1URL: http://www.analog.com/en/index.html; ComponentLink2Description: Datasheet; ComponentLink2URL: http://www.analog.com/static/imported-files/data_sheets/AD7111_7111A.pdf; ComponentLink3Description: Package Specification; ComponentLink3URL: http://www.analog.com/static/imported-files/packages/44768431550332N_16.pdf; ComponentLink4Description: Product URL; ComponentLink4URL: http://www.analog.com/en/digital-to-analog-converters/da-converters/ad7111/products/product.html
footprint N-16 (DIP, 16-Leads, Row Spacing 7.62mm, Pitch 2.54mm, Body 20.1x6.6mm)
pins: 1 IOUT (out), 2 AGND (power), 3 DGND (power), 4 D7(MSB) (in), 5 D6 (in), 6 D5 (in), 7 D4 (in), 8 D3 (in), 9 D2 (in), 10 D1 (in), 11 D0(LSB) (in), 12 ~{CS} (in), 13 ~{WR} (in), 14 VDD (power), 15 VIN (power), 16 RFB (in)

## AD7111UQ
designator U?
Single LC2MOS Logarithmic Digital-to-Analog Converter, -55 to +125 degC, Q-16, Tube; Generic Part Number: AD7111; Manufacturer: Analog Devices; PartNumber: AD7111UQ; # DAC Outputs: 1; Max V+: +5V; Op Pwr Diss: 10mW; Resolution (Bits): 17; Single Supply: Yes; DatasheetVersion: Rev.0; PackageVersion: 1996; PackageReference: Q-16; PackageDescription: DIP, 16-Pin, Skinny Dual In-line Package, 300mil Wide, Pitch 2.54 mm; Supplier 1: Mouser; Supplier Part Number 1: N/A; Packing: Tube; RoHS: N; Mounting Technology: Through Hole; ComponentLink1Description: Manufacturer URL; ComponentLink1URL: http://www.analog.com/en/index.html; ComponentLink2Description: Datasheet; ComponentLink2URL: http://www.analog.com/static/imported-files/data_sheets/AD7111_7111A.pdf; ComponentLink3Description: Package Specification; ComponentLink3URL: http://www.analog.com/static/imported-files/packages/54083157002221Q_16.pdf; ComponentLink4Description: Product URL; ComponentLink4URL: http://www.analog.com/en/digital-to-analog-converters/da-converters/ad7111/products/product.html
footprint Q-16 (DIP, 16-Leads, Row Spacing 7.62mm, Pitch 2.54mm, Body 20.07x6.73mm)
pins: 1 IOUT (out), 2 AGND (power), 3 DGND (power), 4 D7 (MSB) (in), 5 D6 (in), 6 D5 (in), 7 D4 (in), 8 D3 (in), 9 D2 (in), 10 D1 (in), 11 D0 (LSB) (in), 12 ~{CS} (in), 13 ~{WR} (in), 14 VDD (power), 15 VIN (power), 16 RFB (in)

## AD7111UQ/883B
designator U?
Single LC2MOS Logarithmic Digital-to-Analog Converter, -55 to +125 degC, Q-16, Tube; Generic Part Number: AD7111; Manufacturer: Analog Devices; PartNumber: AD7111UQ/883B; # DAC Outputs: 1; Max V+: 5V; Op Pwr Diss: 10mW; Resolution (Bits): 17; Single Supply: Yes; DatasheetVersion: Rev.0; PackageVersion: 1996; PackageReference: Q-16; PackageDescription: DIP, 16-Pin, Skinny Dual In-line Package, 300mil Wide, Pitch 2.54 mm; Supplier 1: Mouser; Supplier Part Number 1: 584-AD7111UQ883B; Packing: Tube; RoHS: N; Mounting Technology: Through Hole; ComponentLink1Description: Manufacturer URL; ComponentLink1URL: http://www.analog.com/en/index.html; ComponentLink2Description: Datasheet; ComponentLink2URL: http://www.analog.com/static/imported-files/data_sheets/AD7111_7111A.pdf; ComponentLink3Description: Package Specification; ComponentLink3URL: http://www.analog.com/static/imported-files/packages/54083157002221Q_16.pdf; ComponentLink4Description: Product URL; ComponentLink4URL: http://www.analog.com/en/digital-to-analog-converters/da-converters/ad7111/products/product.html
footprint Q-16 (DIP, 16-Leads, Row Spacing 7.62mm, Pitch 2.54mm, Body 20.07x6.73mm)
pins: 1 IOUT (out), 2 AGND (power), 3 DGND (power), 4 D7 (MSB) (in), 5 D6 (in), 6 D5 (in), 7 D4 (in), 8 D3 (in), 9 D2 (in), 10 D1 (in), 11 D0 (LSB) (in), 12 ~{CS} (in), 13 ~{WR} (in), 14 VDD (power), 15 VIN (power), 16 RFB (in)

## AD7224CQ
designator U?
Single 8-Bit LC2MOS Digital-to-Analog Converter with Output Amplifier, -40 to +85 degC, Q-18, Tube; Generic Part Number: AD7224; Manufacturer: Analog Devices; PartNumber: AD7224CQ; # DAC Outputs: 1; Max V+: 16.5V; Op Pwr Diss: 75mW; Resolution (Bits): 8; Settling Time: 7µs; Single Supply: Yes; DatasheetVersion: Rev.B; PackageReference: Q-18; PackageDescription: DIP, Ceramic, 18-Pin, Skinny Dual In-line Package, 300mil Wide, Pitch 2.54 mm; Supplier 1: Digi-Key; Supplier Part Number 1: AD7224CQ-ND; Supplier 2: Newark; Supplier Part Number 2: 66F4791; Supplier 3: Mouser; Supplier Part Number 3: 584-AD7224CQ; Packing: Tube; RoHS: N; Mounting Technology: Through Hole; ComponentLink1Description: Manufacturer URL; ComponentLink1URL: http://www.analog.com/en/index.html; ComponentLink2Description: Datasheet; ComponentLink2URL: http://www.analog.com/static/imported-files/data_sheets/AD7224.pdf; ComponentLink3Description: Package Specification; ComponentLink3URL: http://www.analog.com/static/imported-files/packages/3949539816247344490Q_18.pdf; ComponentLink4Description: Product URL; ComponentLink4URL: http://www.analog.com/en/digital-to-analog-converters/da-converters/ad7224/products/product.html
footprint Q-18 (DIP, 18-Leads, Row Spacing 7.62mm, Pitch 2.54mm, Body 24.13x6.73mm)
pins: 1 VSS (power), 2 VOUT (out), 3 VREF (in), 4 AGND (power), 5 DGND (power), 6 (MSB) DB7 (in), 7 DB6 (in), 8 DB5 (in), 9 DB4 (in), 10 DB3 (in), 11 DB2 (in), 12 DB1 (in), 13 DB0 (LSB) (in), 14 ~{CS} (in), 15 ~{WR} (in), 16 ~{LDAC} (in), 17 ~{RESET} (in), 18 VDD (power)

## AD7224KN
designator U?
Single 8-Bit LC2MOS Digital-to-Analog Converter with Output Amplifier, 0 to +70 degC, N-18, Tube; Generic Part Number: AD7224; Manufacturer: Analog Devices; PartNumber: AD7224KN; # DAC Outputs: 1; Max V+: 16.5V; Op Pwr Diss: 75mW; Resolution (Bits): 8; Settling Time: 7µs; Single Supply: Yes; DatasheetVersion: Rev.B; PackageVersion: 070706-A; PackageReference: N-18; PackageDescription: 18-Lead Plastic Dual In-Line Package [PDIP] Narrow Body; Supplier 1: Digi-Key; Supplier Part Number 1: AD7224KN-ND; Supplier 2: Mouser; Supplier Part Number 2: 584-AD7224KN; Packing: Tube; RoHS: N; Mounting Technology: Through Hole; Code_JEDEC: MS-001; ComponentLink1Description: Manufacturer URL; ComponentLink1URL: http://www.analog.com/en/index.html; ComponentLink2Description: Datasheet; ComponentLink2URL: http://www.analog.com/static/imported-files/data_sheets/AD7224.pdf; ComponentLink3Description: Package Specification; ComponentLink3URL: http://www.analog.com/static/imported-files/packages/44930452931834N_18.pdf; ComponentLink4Description: Product URL; ComponentLink4URL: http://www.analog.com/en/digital-to-analog-converters/da-converters/ad7224/products/product.html
footprint N-18 (DIP, 18-Leads, Row Spacing 7.62mm, Pitch 2.54mm, Body 22.9x6.6mm)
pins: 1 VSS (power), 2 VOUT (out), 3 VREF (in), 4 AGND (power), 5 DGND (power), 6 (MSB) DB7 (in), 7 DB6 (in), 8 DB5 (in), 9 DB4 (in), 10 DB3 (in), 11 DB2 (in), 12 DB1 (in), 13 DB0 (LSB) (in), 14 ~{CS} (in), 15 ~{WR} (in), 16 ~{LDAC} (in), 17 ~{RESET} (in), 18 VDD (power)

## AD7224KNZ
designator U?
Single 8-Bit LC2MOS Digital-to-Analog Converter with Output Amplifier, 0 to +70 degC, N-18, Pb-Free, Tube; Generic Part Number: AD7224; Manufacturer: Analog Devices; PartNumber: AD7224KNZ; # DAC Outputs: 1; Max V+: 16.5V; Op Pwr Diss: 75mW; Resolution (Bits): 8; Settling Time: 7µs; Single Supply: Yes; DatasheetVersion: Rev.B; PackageVersion: 070706-A; PackageReference: N-18; PackageDescription: 18-Lead Plastic Dual In-Line Package [PDIP] Narrow Body; Supplier 1: Digi-Key; Supplier Part Number 1: AD7224KNZ-ND; Supplier 2: Farnell; Supplier Part Number 2: 1438381; Supplier 3: Newark; Supplier Part Number 3: 59K4564; Supplier 4: Mouser; Supplier Part Number 4: 584-AD7224KNZ; Packing: Tube; RoHS: Y; Mounting Technology: Through Hole; Code_JEDEC: MS-001; ComponentLink1Description: Manufacturer URL; ComponentLink1URL: http://www.analog.com/en/index.html; ComponentLink2Description: Datasheet; ComponentLink2URL: http://www.analog.com/static/imported-files/data_sheets/AD7224.pdf; ComponentLink3Description: Package Specification; ComponentLink3URL: http://www.analog.com/static/imported-files/packages/44930452931834N_18.pdf; ComponentLink4Description: Product URL; ComponentLink4URL: http://www.analog.com/en/digital-to-analog-converters/da-converters/ad7224/products/product.html
footprint N-18 (DIP, 18-Leads, Row Spacing 7.62mm, Pitch 2.54mm, Body 22.9x6.6mm)
pins: 1 VSS (power), 2 VOUT (out), 3 VREF (in), 4 AGND (power), 5 DGND (power), 6 (MSB) DB7 (in), 7 DB6 (in), 8 DB5 (in), 9 DB4 (in), 10 DB3 (in), 11 DB2 (in), 12 DB1 (in), 13 DB0 (LSB) (in), 14 ~{CS} (in), 15 ~{WR} (in), 16 ~{LDAC} (in), 17 ~{RESET} (in), 18 VDD (power)

## AD7224KPZ
designator U?
Single 8-Bit LC2MOS Digital-to-Analog Converter with Output Amplifier, 0 to +70 degC, P-20A, Pb-Free, Tube; Generic Part Number: AD7224; Manufacturer: Analog Devices; PartNumber: AD7224KPZ; # DAC Outputs: 1; Max V+: 16.5V; Op Pwr Diss: 75mW; Resolution (Bits): 8; Settling Time: 7µs; Single Supply: Yes; DatasheetVersion: Rev.B; PackageVersion: Nov-2002; PackageReference: P-20A; PackageDescription: 20-Lead Plastic Leaded Chip Carrier [PLCC]; Supplier 1: Digi-Key; Supplier Part Number 1: AD7224KPZ-ND; Supplier 2: Mouser; Supplier Part Number 2: 584-AD7224KPZ; Packing: Tube; RoHS: Y; Mounting Technology: Surface Mount; Code_JEDEC: MO-047-AA; ComponentLink1Description: Manufacturer URL; ComponentLink1URL: http://www.analog.com/en/index.html; ComponentLink2Description: Datasheet; ComponentLink2URL: http://www.analog.com/static/imported-files/data_sheets/AD7224.pdf; ComponentLink3Description: Package Specification; ComponentLink3URL: http://www.analog.com/static/imported-files/packages/3121431516544404277643669223804694P20A.pdf; ComponentLink4Description: Product URL; ComponentLink4URL: http://www.analog.com/en/digital-to-analog-converters/da-converters/ad7224/products/product.html
footprint P-20A_N (Leaded Chip Carrier, 20-Leads, Body 9x9mm, Pitch 1.27mm, IPC Medium Density)
footprint P-20A_L (Leaded Chip Carrier, 20-Leads, Body 9x9mm, Pitch 1.27mm, IPC High Density)
footprint P-20A_M (Leaded Chip Carrier, 20-Leads, Body 9x9mm, Pitch 1.27mm, IPC Low Density)
pins: 1 NC, 2 VSS (power), 3 VOUT (out), 4 VREF (in), 5 AGND (power), 6 DGND (power), 7 (MSB) DB7 (in), 8 DB6 (in), 9 DB5 (in), 10 DB4 (in), 11 NC, 12 DB3 (in), 13 DB2 (in), 14 DB1 (in), 15 DB0 (LSB) (in), 16 ~{CS} (in), 17 ~{WR} (in), 18 ~{LDAC} (in), 19 ~{RESET} (in), 20 VDD (power)

## AD7224KR-1
designator U?
Single 8-Bit LC2MOS Digital-to-Analog Converter with Output Amplifier, 0 to +70 degC, RW-20, Tube; Generic Part Number: AD7224; Manufacturer: Analog Devices; PartNumber: AD7224KR-1; # DAC Outputs: 1; Max V+: 16.5V; Op Pwr Diss: 75mW; Resolution (Bits): 8; Settling Time: 7µs; Single Supply: Yes; DatasheetVersion: Rev.B; PackageVersion: 060706-A; PackageReference: RW-20; PackageDescription: 20-Lead Standard Small Outline Package [SOIC_W] Wide Body; Supplier 1: Digi-Key; Supplier Part Number 1: AD7224KR-1-ND; Supplier 2: Mouser; Supplier Part Number 2: 584-AD7224KR-1; Packing: Tube; RoHS: N; Mounting Technology: Surface Mount; Code_JEDEC: MS-013-AC; ComponentLink1Description: Manufacturer URL; ComponentLink1URL: http://www.analog.com/en/index.html; ComponentLink2Description: Datasheet; ComponentLink2URL: http://www.analog.com/static/imported-files/data_sheets/AD7224.pdf; ComponentLink3Description: Package Specification; ComponentLink3URL: http://www.analog.com/static/imported-files/packages/233848RW_20.pdf; ComponentLink4Description: Product URL; ComponentLink4URL: http://www.analog.com/en/digital-to-analog-converters/da-converters/ad7224/products/product.html
footprint RW-20_N (SOIC, 20-Leads, Body 12.8x7.5mm, Pitch 1.27mm, IPC Medium Density)
footprint RW-20_L (SOIC, 20-Leads, Body 12.8x7.5mm, Pitch 1.27mm, IPC High Density)
footprint RW-20_M (SOIC, 20-Leads, Body 12.8x7.5mm, Pitch 1.27mm, IPC Low Density)
pins: 1 VSS (power), 2 VOUT (out), 3 VREF (in), 4 AGND (power), 5 DGND (power), 6 (MSB) DB7 (in), 7 DB6 (in), 8 DB5 (in), 9 DB4 (in), 10 NC, 11 NC, 12 DB3 (in), 13 DB2 (in), 14 DB1 (in), 15 DB0 (LSB) (in), 16 ~{CS} (in), 17 ~{WR} (in), 18 ~{LDAC} (in), 19 ~{RESET} (in), 20 VDD (power)